# Altium footprint library BQ25895-TEST.PcbLib: 5 footprints
Each footprint in its own frame and in the unit in brackets; x right, y up, seen from the top. Pads: shape width x height; smd on the part's side, far side on the other; paste and mask are expansions set on the pad; w line width, h text height; cw(c..) or ccw(c..) is an arc to the next point about the centre after c.
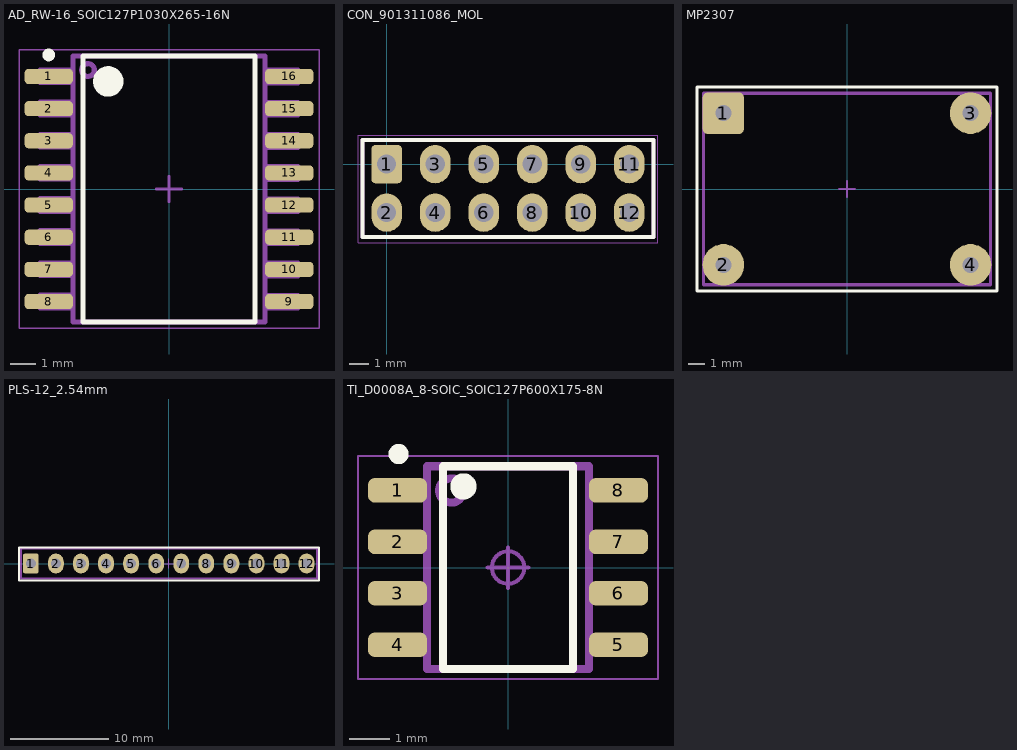
[diagram p0: the footprints below, top view; thin cyan lines are the x and y axes]

## AD_RW-16_SOIC127P1030X265-16N [mm] "SOIC, 16-Leads, Body 10,30x7,50mm, Pitch 1,27mm, IPC Medium Density"
height 2.65
pads (16):
  rrect50% 1.9x0.6 smd: 1(-4.75,4.445) 2(-4.75,3.175) 3(-4.75,1.905) 4(-4.75,0.635) 5(-4.75,-0.635) 6(-4.75,-1.905) 7(-4.75,-3.175) 8(-4.75,-4.445) 9(4.75,-4.445) 10(4.75,-3.175) 11(4.75,-1.905) 12(4.75,-0.635) 13(4.75,0.635) 14(4.75,1.905) 15(4.75,3.175) 16(4.75,4.445)
Top Overlay:
  circle w0.25: c-4.75,5.295 r0.125
  circle w0.6: c-2.4,4.25 r0.3
  lines w0.2: -3.4,-5.25 -3.4,5.25 3.4,5.25 3.4,-5.25 -3.4,-5.25
Top Designator:
  text "'.Designator'" at -4.249,0.688 h0.75
Top Assembly:
  circle w0.2: c-3.2,4.7 r0.25
  lines w0.2: -3.8,-4.69 -5.1,-4.69 -5.1,-4.19 -3.8,-4.19 ; -3.8,-3.42 -5.1,-3.42 -5.1,-2.92 -3.8,-2.92 ; -3.8,-2.15 -5.1,-2.15 -5.1,-1.65 -3.8,-1.65 ; -3.8,-0.88 -5.1,-0.88 -5.1,-0.38 -3.8,-0.38 ; -3.8,0.39 -5.1,0.39 -5.1,0.89 -3.8,0.89 ; -3.8,1.66 -5.1,1.66 -5.1,2.16 -3.8,2.16 ; -3.8,2.93 -5.1,2.93 -5.1,3.43 -3.8,3.43 ; -3.8,4.2 -5.1,4.2 -5.1,4.7 -3.8,4.7 ; 3.8,-4.7 5.1,-4.7 5.1,-4.2 3.8,-4.2 ; 3.8,-3.43 5.1,-3.43 5.1,-2.93 3.8,-2.93 ; 3.8,-2.16 5.1,-2.16 5.1,-1.66 3.8,-1.66 ; 3.8,-0.89 5.1,-0.89 5.1,-0.39 3.8,-0.39 ; 3.8,0.38 5.1,0.38 5.1,0.88 3.8,0.88 ; 3.8,1.65 5.1,1.65 5.1,2.15 3.8,2.15 ; 3.8,2.92 5.1,2.92 5.1,3.42 3.8,3.42 ; 3.8,4.19 5.1,4.19 5.1,4.69 3.8,4.69 ; -3.8,-5.25 -3.8,5.25 3.8,5.25 3.8,-5.25 -3.8,-5.25
Top Courtyard:
  lines w0.05: -5.925,-5.5 -5.925,5.5 5.925,5.5 5.925,-5.5 -5.925,-5.5
  lines w0.1: -0.5,0 0.5,0 ; 0,-0.5 0,0.5
Top Value:
  text "'.Comment'" at -3.186,-1.437 h0.75
3D body "AD_RW-16_SOIC127P1030X265-16N.step": height 2.65, standoff 0, extent -5.162,-5.25 5.162,5.25

## CON_901311086_MOL [mm]
pads (12):
  rrect25% 1.6x2 hole 1 paste-0.675 mask+0.076: 1(0,0)
  oval 1.6x2 hole 1 paste-0.675 mask+0.076: 2(0,-2.54) 3(2.54,0) 4(2.54,-2.54) 5(5.08,0) 6(5.08,-2.54) 7(7.62,0) 8(7.62,-2.54) 9(10.16,0) 10(10.16,-2.54) 11(12.7,0) 12(12.7,-2.54)
Top Overlay:
  lines w0.2: -1.27,-3.81 -1.27,1.27 13.97,1.27 13.97,-3.81 -1.27,-3.81
Top Designator:
  text "'.Designator'" at 2.051,-1.512 h0.75
Top Assembly:
  lines w0.2: -1.27,-3.81 13.97,-3.81 13.97,1.27 -1.27,1.27 -1.27,-3.81
Top Courtyard:
  lines w0.05: -1.5,-4.1 14.2,-4.1 14.2,1.5 -1.5,1.5 -1.5,-4.1
Top Value:
  text "'.Comment'" at 3.314,-1.537 h0.75
3D body "901311086.stp": height 9.26, standoff -2.89, extent -1.27,-3.81 13.97,1.27

## MP2307 [mm] "SOIC, 16-Leads, Body 10,30x7,50mm, Pitch 1,27mm, IPC Medium Density"
height 2.65
pads (4):
  rrect25% 2.6x2.6 hole 1 paste-0.675 mask+0.076: 1(-7.75,4.75)
  round 2.6 hole 1 paste-0.675 mask+0.076: 2(-7.75,-4.75) 3(7.75,4.75) 4(7.75,-4.75)
Top Overlay:
  lines w0.2: -9.4,-6.4 -9.4,6.4 9.4,6.4 9.4,-6.4 -9.4,-6.4
Top Designator:
  text "'.Designator'" at -4.249,0.688 h0.75
Top Assembly:
  circle w0.2: c-8,5 r0.25
  lines w0.2: -9,-6 -9,6 9,6 9,-6 -9,-6
Top Courtyard:
  lines w0.05: -9,-6 -9,6 9,6 9,-6 -9,-6
  lines w0.1: -0.5,0 0.5,0 ; 0,-0.5 0,0.5
Top Value:
  text "'.Comment'" at -3.186,-1.437 h0.75

## PLS-12_2.54mm [mm]
pads (12):
  rrect25% 1.6x2 hole 1 paste-0.675 mask+0.076: 1(-13.97,0)
  oval 1.6x2 hole 1 paste-0.675 mask+0.076: 2(-11.43,0) 3(-8.89,0) 4(-6.35,0) 5(-3.81,0) 6(-1.27,0) 7(1.27,0) 8(3.81,0) 9(6.35,0) 10(8.89,0) 11(11.43,0) 12(13.97,0)
Top Overlay:
  lines w0.2: -15.17,-1.7 -15.17,1.6 15.23,1.6 15.23,-1.7 -15.17,-1.7
Top Designator:
  text "'.Designator'" at -4.119,0.188 h0.75
Top Assembly:
  lines w0.2: -14.97,-1.5 15.03,-1.5 15.03,1.5 -14.97,1.5 -14.97,-1.5
Top Courtyard:
  lines w0.05: -14.97,-1.5 15.03,-1.5 15.03,1.5 -14.97,1.5 -14.97,-1.5
  lines w0.1: -0.5,0 0.5,0 ; 0,-0.5 0,0.5
Top Value:
  text "'.Comment'" at -3.156,-1.137 h0.75

## TI_D0008A_8-SOIC_SOIC127P600X175-8N [mm] "SOIC, 8-Leads, Body 4.90x3.90mm, Pitch 1.27mm, IPC Medium Density"
height 1.75
pads (8):
  rrect50% 1.45x0.6 smd mask+0.05: 1(-2.725,1.905) 2(-2.725,0.635) 3(-2.725,-0.635) 4(-2.725,-1.905) 5(2.725,-1.905) 6(2.725,-0.635) 7(2.725,0.635) 8(2.725,1.905)
Top Overlay:
  circle w0.25: c-2.7,2.8 r0.125
  circle w0.35: c-1.1,2 r0.15
  lines w0.2: -1.6,-2.5 -1.6,2.5 1.6,2.5 1.6,-2.5 -1.6,-2.5
Top Designator:
  text "'.Designator'" at -4.249,0.588 h0.75
Top Assembly:
  circle w0.2: c-1.4,1.9 r0.3
  lines w0.2: -2,-2.5 -2,2.5 2,2.5 2,-2.5 -2,-2.5
Top Courtyard:
  circle w0.1: c0,0 r0.4
  lines w0.05: -3.7,-2.75 -3.7,2.75 3.7,2.75 3.7,-2.75 -3.7,-2.75
  lines w0.1: -0.5,0 0.5,0 ; 0,-0.5 0,0.5
Top Value:
  text "'.Comment'" at -3.211,-0.812 h0.75
3D body "AD_R-8_(8-SOIC)_SOIC127P600X175-8N.step": height 1.75, standoff 0, extent -3,-2.5 3,2.5